# EAGLE library part 5-146130-2 (library Connectors_1)
CONN HEADER SMD 6POS 2.54MM Manufacturer's datasheet <https://www.te.com/commerce/DocumentDelivery/DDEController?Action=srchrtrv&DocNm=146130&DocType=Customer+Drawing&DocLang=English>
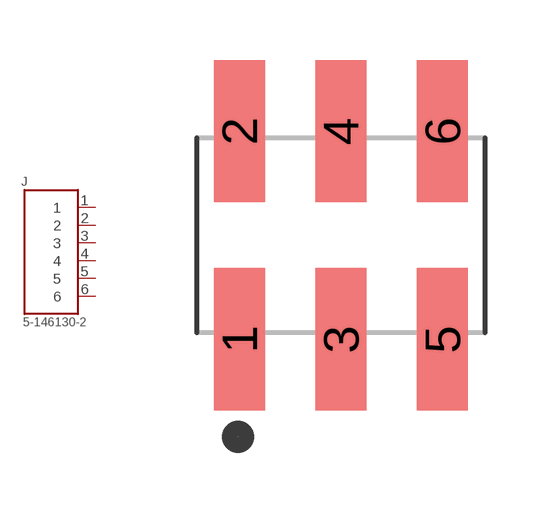
[diagram p9: symbol with the pads of 5-146130-2; footprint 5-146130-2]

Designator prefix J

## 5-146130-2 (CREATED_BY: PCBLayout.com; DIGIKEY_PART_NUMBER: 5-146130-2-ND; MANUFACTURER: TE Connectivity AMP Connectors; MPN: 5-146130-2)  [5-146130-2]
1  1  pas
2  2  pas
3  3  pas
4  4  pas
5  5  pas
6  6  pas

## Footprint 5-146130-2 (pad centres in mm)
smd 1.27 x 3.56: 1 -2.54,-2.605; 2 -2.54,2.605; 3 0,-2.605; 4 0,2.605; 5 2.54,-2.605; 6 2.54,2.605